# EAGLE library part GENERAL_EM_HEADERS (library AustinBlackstoneEngineeringPublic)
General Non-Labled Stellaris Launchpad EM Headers
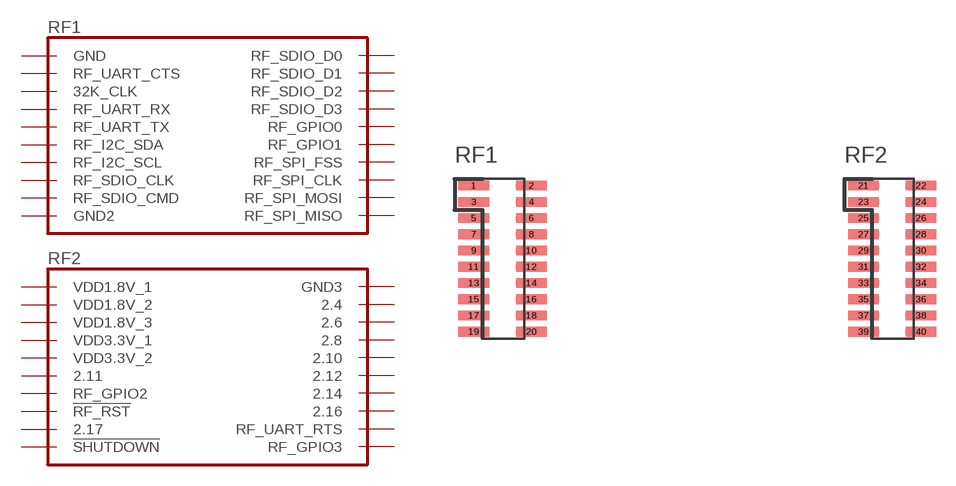
[diagram p1: symbol with the pads of 2_EMHEADER_TOP; footprint 2_EMHEADER_TOP]

Designator prefix -

## GENERAL_EM_HEADERS  [2_EMHEADER_TOP]
1  GND
2  RF_SDIO_D0
3  RF_UART_CTS
4  RF_SDIO_D1
5  32K_CLK
6  RF_SDIO_D2
7  RF_UART_RX
8  RF_SDIO_D3
9  RF_UART_TX
10  RF_GPIO0
11  RF_I2C_SDA
12  RF_GPIO1
13  RF_I2C_SCL
14  RF_SPI_FSS
15  RF_SDIO_CLK
16  RF_SPI_CLK
17  RF_SDIO_CMD
18  RF_SPI_MOSI
19  GND2
20  RF_SPI_MISO
21  VDD1.8V_1
22  GND3
23  VDD1.8V_2
24  2.4
25  VDD1.8V_3
26  2.6
27  VDD3.3V_1
28  2.8
29  VDD3.3V_2
30  2.10
31  2.11
32  2.12
33  RF_GPIO2
34  2.14
35  !RF_RST
36  2.16
37  2.17
38  RF_UART_RTS
39  !SHUTDOWN
40  RF_GPIO3

## Footprint 2_EMHEADER_TOP (pad centres in mm)
General EM Header Top Layer part. Reccomended use for Female part. Populate with Samtec part TFM-110-02-SM-D-A-K-TR (or close enough part) This part is a mirror of the EM Headers on the SensorHub booster pack, meant as a base to be used for further expansion (ie you would plug a boosterpack into these headers) Note: You CANNOT simply flip this part to get the recipricating part, this is because the mirror function in Eagle not only changes the side (top to bottom) but also mirrors the pins. Thus a seperate part is needed for the bottom. Check the library for "General EM Header Bottom Layer" for the complimenting part.
smd 2.4 x 0.76: 1 -0.537,12.192; 2 3.966,12.192; 3 -0.537,10.922; 4 3.966,10.922; 5 -0.537,9.652; 6 3.966,9.652; 7 -0.537,8.382; 8 3.966,8.382; 9 -0.537,7.112; 10 3.966,7.112; 11 -0.537,5.842; 12 3.966,5.842; 13 -0.537,4.572; 14 3.966,4.572; 15 -0.537,3.302; 16 3.966,3.302; 17 -0.537,2.032; 18 3.966,2.032; 19 -0.537,0.762; 20 3.966,0.762; 21 29.943,12.192; 22 34.446,12.192; 23 29.943,10.922; 24 34.446,10.922; 25 29.943,9.652; 26 34.446,9.652; 27 29.943,8.382; 28 34.446,8.382; 29 29.943,7.112; 30 34.446,7.112; 31 29.943,5.842; 32 34.446,5.842; 33 29.943,4.572; 34 34.446,4.572; 35 29.943,3.302; 36 34.446,3.302; 37 29.943,2.032; 38 34.446,2.032; 39 29.943,0.762; 40 34.446,0.762